# Altium footprint library ECA-2AM100.PcbLib: 1 footprints
Each footprint in its own frame and in the unit in brackets; x right, y up, seen from the top. Pads: shape width x height; smd on the part's side, far side on the other; paste and mask are expansions set on the pad; w line width, h text height; cw(c..) or ccw(c..) is an arc to the next point about the centre after c.
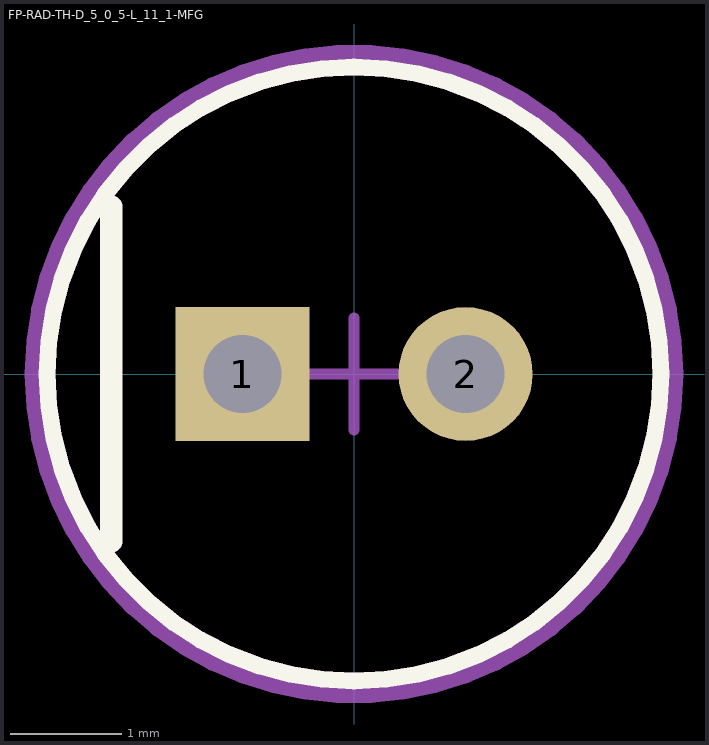
[diagram p0: the footprint, top view; thin cyan lines are the x and y axes]

## FP-RAD-TH-D_5_0_5-L_11_1-MFG [mm]
pads (2):
  rect 1.2x1.2 hole 0.7 paste-2539.97 mask+0: 1(-1,0)
  round 1.2 hole 0.7 paste-2539.97 mask+0: 2(1,0)
Top Overlay:
  circle w0.15: c0,0 r2.75
  lines w0.2: -2.175,-1.5 -2.175,1.5
Top Assembly:
  text ".Designator" at 0,0.188 h1
Top 3D Body:
  circle w0.15: c0,0 r2.75
Top Courtyard:
  lines w0.2: -2.85,0 ccw(c0,0) 2.85,0 ccw(c0,0) -2.85,0
Top Component Center:
  lines w0.1: -0.5,0 0.5,0 ; 0,-0.5 0,0.5
3D body "Cap_Panasonic_ECA1CM220B_eec.STEP": height 0.25, standoff 0, extent -2.85,-2.85 2.85,2.85